# EAGLE library part FI_7M3MH (library dtoy-RF)
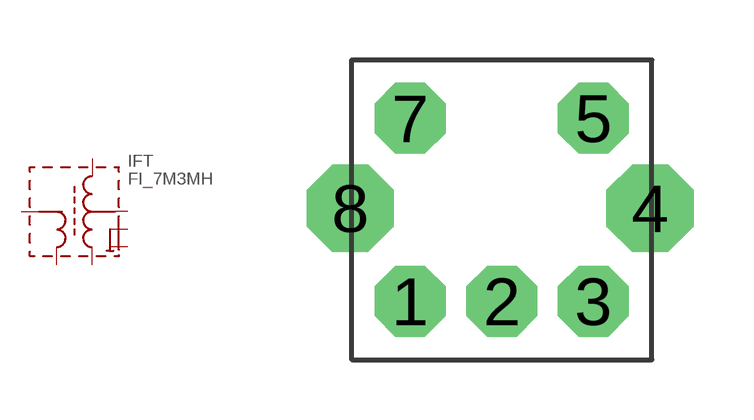
[diagram p1: symbol with the pads of FI_7M5P; footprint FI_7M5P]

Designator prefix IFT

## FI_7M3MH  [FI_7M5P]
1  7  pas
2  6  pas
3  5  pas
4  4  pas
5  1  pas
7  2  pas
8  8  pas

## Footprint FI_7M5P (pad centres in mm)
drill 0.813 pad 1.778 octagon: 1 -2.29,-2.29; 2 0,-2.29; 3 2.29,-2.29; 5 2.29,2.29; 7 -2.29,2.29
drill 0.813 pad 2.184 octagon: 4 3.71,0.04; 8 -3.79,0.04